# Altium schematic symbol library misc.SchLib: 17 symbols
Pins are listed as number, name and electrical type; pins without a type are passive.

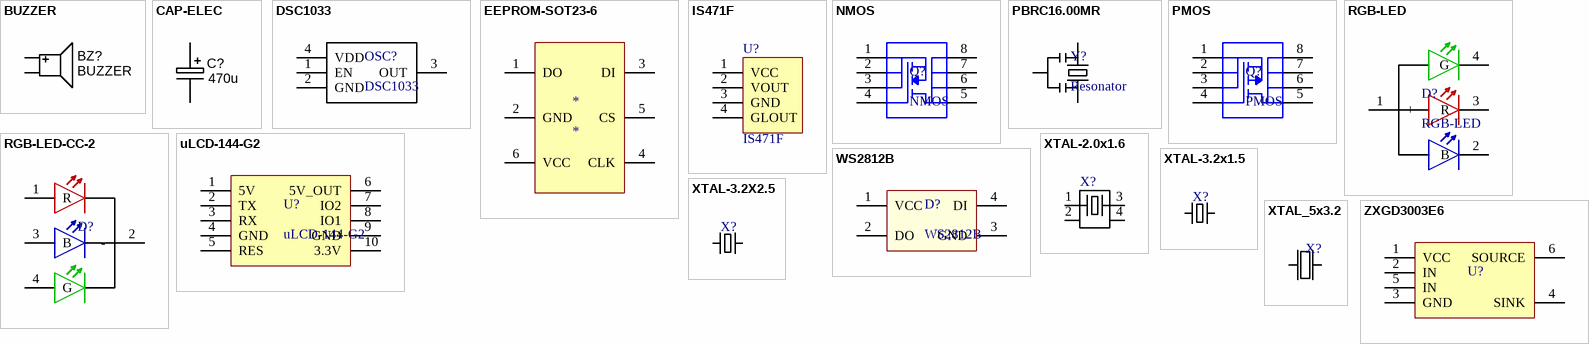
[diagram p0: symbols BUZZER to ZXGD3003E6]

## BUZZER
designator BZ?
footprint KXG1212
footprint KXG1212-THT
pins: 1 Positive, 2 Negative

## CAP-ELEC
designator C?, comment 470u
footprint CAP-LEADED-SMD-5
pins: 1, 2

## DSC1033
designator OSC?
footprint DSC1033-3.2x2.5
pins: 1 EN, 2 GND, 3 OUT, 4 VDD

## EEPROM-SOT23-6
designator *
footprint SOT23-6-EEPROM (SOT23, 6-Leads, Body 2,90x2,70mm, Pitch 0,95mm, IPC Medium Density)
pins: 1 DO, 2 GND, 3 DI, 4 CLK, 5 CS, 6 VCC

## IS471F
designator U?
footprint IS471F
pins: 1 VCC, 2 VOUT, 3 GND, 4 GLOUT

## NMOS
designator Q?
footprint SO8
pins: 1, 2, 3, 4, 5, 6, 7, 8

## PBRC16.00MR
designator Y?, comment Resonator
footprint PBRC16.00MR
pins: 1, 2, 3

## PMOS
designator Q?
footprint SO8
pins: 1, 2, 3, 4, 5, 6, 7, 8

## RGB-LED
designator D?
footprint RGB-LED (WURTH ELEKTRONIK 150141M173100)
pins: 1 +, 2 B, 3 R, 4 G

## RGB-LED-CC-2
designator D?
footprint RGB-LED-5mm
pins: 1 R, 2 -, 3 B, 4 G

## uLCD-144-G2
designator U?
footprint uLCD-144-G2
footprint uLCD-144-G2-NO-OVERLAY
pins: 1 5V, 2 TX, 3 RX, 4 GND, 5 RES, 6 5V_OUT, 7 IO2, 8 IO1, 9 GND, 10 3.3V

## WS2812B
designator D?
footprint WS2812B
pins: 1 VCC, 2 DO, 3 GND, 4 DI

## XTAL-2.0x1.6
designator X?  (value not drawn)
footprint XTAL-2.0X1.6
pins: 1, 2, 3, 4

## XTAL-3.2x1.5
designator X?  (value not drawn)
footprint XTAL-3.2x1.5
pins: 1, 2

## XTAL-3.2X2.5
designator X?  (value not drawn)
footprint XTAL-3.2x2.5
pins: 1, 3

## XTAL_5x3.2
designator X?  (value not drawn)
footprint XTAL-5x3.2 (Molded Inductor, 2-Leads, Body 5,00x3,20mm, IPC Medium Density)
pins: 1, 2

## ZXGD3003E6
designator U?  (value not drawn)
MOSFET driver
footprint SOT23-6-EEPROM (SOT23, 6-Leads, Body 2,90x2,70mm, Pitch 0,95mm, IPC Medium Density)
pins: 1 VCC, 2 IN, 3 GND, 4 SINK, 5 IN, 6 SOURCE